# EAGLE library part GR47 (library con-GR47_GSM_Module)
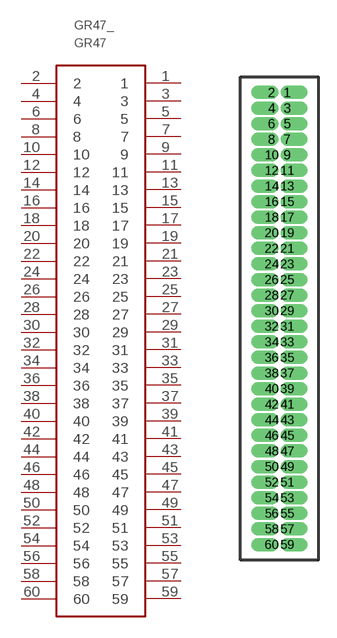
[diagram p0: symbol with the pads of CON-GR47_GSM_MODULE; footprint CON-GR47_GSM_MODULE]

Designator prefix GR47_

## GR47  [CON-GR47_GSM_MODULE]
1  1
2  2
3  3
4  4
5  5
6  6
7  7
8  8
9  9
10  10
11  11
12  12
13  13
14  14
15  15
16  16
17  17
18  18
19  19
20  20
21  21
22  22
23  23
24  24
25  25
26  26
27  27
28  28
29  29
30  30
31  31
32  32
33  33
34  34
35  35
36  36
37  37
38  38
39  39
40  40
41  41
42  42
43  43
44  44
45  45
46  46
47  47
48  48
49  49
50  50
51  51
52  52
53  53
54  54
55  55
56  56
57  57
58  58
59  59
60  60

## Footprint CON-GR47_GSM_MODULE (pad centres in mm)
drill 0.61 pad 0.61 offset: 1 0,19.05; 2 -1.27,19.05; 3 0,17.78; 4 -1.27,17.78; 5 0,16.51; 6 -1.27,16.51; 7 0,15.24; 8 -1.27,15.24; 9 0,13.97; 10 -1.27,13.97; 11 0,12.7; 12 -1.27,12.7; 13 0,11.43; 14 -1.27,11.43; 15 0,10.16; 16 -1.27,10.16; 17 0,8.89; 18 -1.27,8.89; 19 0,7.62; 20 -1.27,7.62; 21 0,6.35; 22 -1.27,6.35; 23 0,5.08; 24 -1.27,5.08; 25 0,3.81; 26 -1.27,3.81; 27 0,2.54; 28 -1.27,2.54; 29 0,1.27; 30 -1.27,1.27; 31 0,0; 32 -1.27,0; 33 0,-1.27; 34 -1.27,-1.27; 35 0,-2.54; 36 -1.27,-2.54; 37 0,-3.81; 38 -1.27,-3.81; 39 0,-5.08; 40 -1.27,-5.08; 41 0,-6.35; 42 -1.27,-6.35; 43 0,-7.62; 44 -1.27,-7.62; 45 0,-8.89; 46 -1.27,-8.89; 47 0,-10.16; 48 -1.27,-10.16; 49 0,-11.43; 50 -1.27,-11.43; 51 0,-12.7; 52 -1.27,-12.7; 53 0,-13.97; 54 -1.27,-13.97; 55 0,-15.24; 56 -1.27,-15.24; 57 0,-16.51; 58 -1.27,-16.51; 59 0,-17.78; 60 -1.27,-17.78